# Altium integrated library TSM-108-01-L-DV-014.IntLib: 1 symbol
Pins are listed as number, name and electrical type; pins without a type are passive.

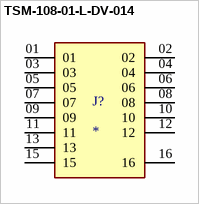
[diagram p0: symbol TSM-108-01-L-DV-014]

## TSM-108-01-L-DV-014
designator J?
MP: TSM-108-01-L-DV-014; MF: Samtec; Availability: Unavailable; Package: None; Value: *; Price: None
footprint SAMTEC_TSM-108-01-L-DV-014
pins: 01, 02, 03, 04, 05, 06, 07, 08, 09, 10, 11, 12, 13, 15, 16